# Altium schematic symbol library CC0402FRNPO9BN101.SchLib: 1 symbol
Pins are listed as number, name and electrical type; pins without a type are passive.

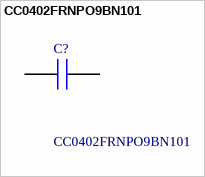
[diagram p0: symbol CC0402FRNPO9BN101]

## CC0402FRNPO9BN101
designator C?
Multilayer Ceramic Capacitors MLCC - SMD/SMT 50 V 100pF C0G 0402 1%; Manufacturer_Name: YAGEO; Geometry.Height: 0.55mm; Manufacturer_Part_Number: CC0402FRNPO9BN101; Mouser Part Number: *; Mouser Price/Stock: *; Arrow Part Number: *; Arrow Price/Stock: *; Datasheet Link: https://www.yageo.com/upload/media/product/productsearch/datasheet/mlcc/UPY-GP_NP0_16V-to-50V_18.pdf
footprint CAPC1005X55N
pins: 1, 2